# EAGLE library part SFP (library sfp)
SFP receptable (Combine with SFP_CAGE for a full SFP setup)
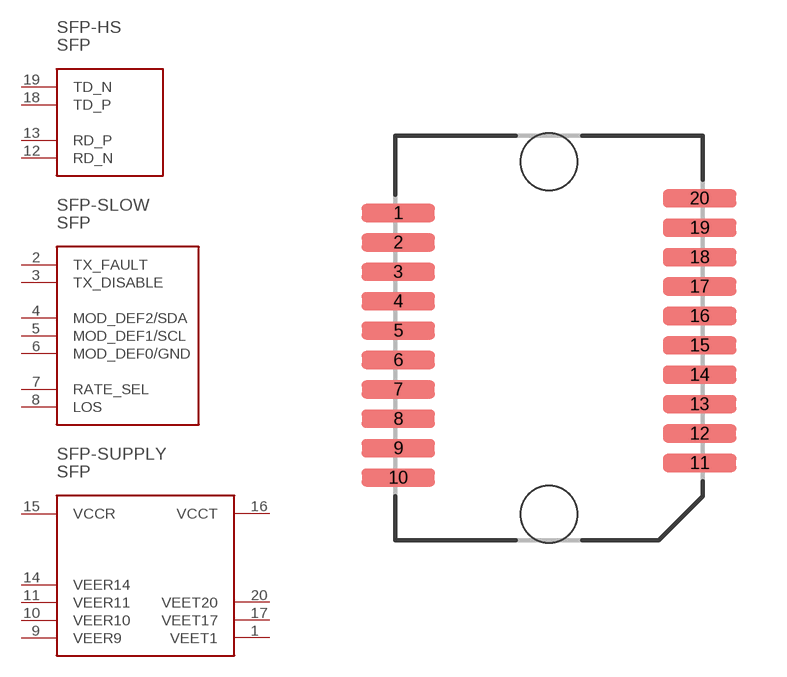
[diagram p0: symbol with the pads of SFP; footprint SFP]

Designator prefix SFP; gates -HS=SFP_HS -SLOW=SFP_SLOW -SUPPLY=SFP_SUPPLY

## SFP  [SFP]
1  -SUPPLY:VEET1  pwr
2  -SLOW:TX_FAULT  out
3  -SLOW:TX_DISABLE  in
4  -SLOW:MOD_DEF2/SDA
5  -SLOW:MOD_DEF1/SCL
6  -SLOW:MOD_DEF0/GND  pas
7  -SLOW:RATE_SEL  in
8  -SLOW:LOS  out
9  -SUPPLY:VEER9  pwr
10  -SUPPLY:VEER10  pwr
11  -SUPPLY:VEER11  pwr
12  -HS:RD_N  out
13  -HS:RD_P  out
14  -SUPPLY:VEER14  pwr
15  -SUPPLY:VCCR  pwr
16  -SUPPLY:VCCT  pwr
17  -SUPPLY:VEET17  pwr
18  -HS:TD_P  in
19  -HS:TD_N  in
20  -SUPPLY:VEET20  pwr

## Footprint SFP (pad centres in mm)
SFP Receptacle Based on Amphenol UE75A206000T( Datasheet link <https://cdn.amphenol-icc.com/media/wysiwyg/files/drawing/ue75a20x00xx.pdf> )
smd 2 x 0.5: 1 -3.2,3.4; 2 -3.2,2.6; 3 -3.2,1.8; 4 -3.2,1; 5 -3.2,0.2; 6 -3.2,-0.6; 7 -3.2,-1.4; 8 -3.2,-2.2; 9 -3.2,-3; 10 -3.2,-3.8; 11 5,-3.4; 12 5,-2.6; 13 5,-1.8; 14 5,-1; 15 5,-0.2; 16 5,0.6; 17 5,1.4; 18 5,2.2; 19 5,3; 20 5,3.8
hole 1.55 at 0.9,4.8
hole 1.55 at 0.9,-4.8